# Altium footprint library PcbLib2.PcbLib: 31 footprints (part 1 of 2)
Each footprint in its own frame and in the unit in brackets; x right, y up, seen from the top. Pads: shape width x height; smd on the part's side, far side on the other; paste and mask are expansions set on the pad; w line width, h text height; cw(c..) or ccw(c..) is an arc to the next point about the centre after c.
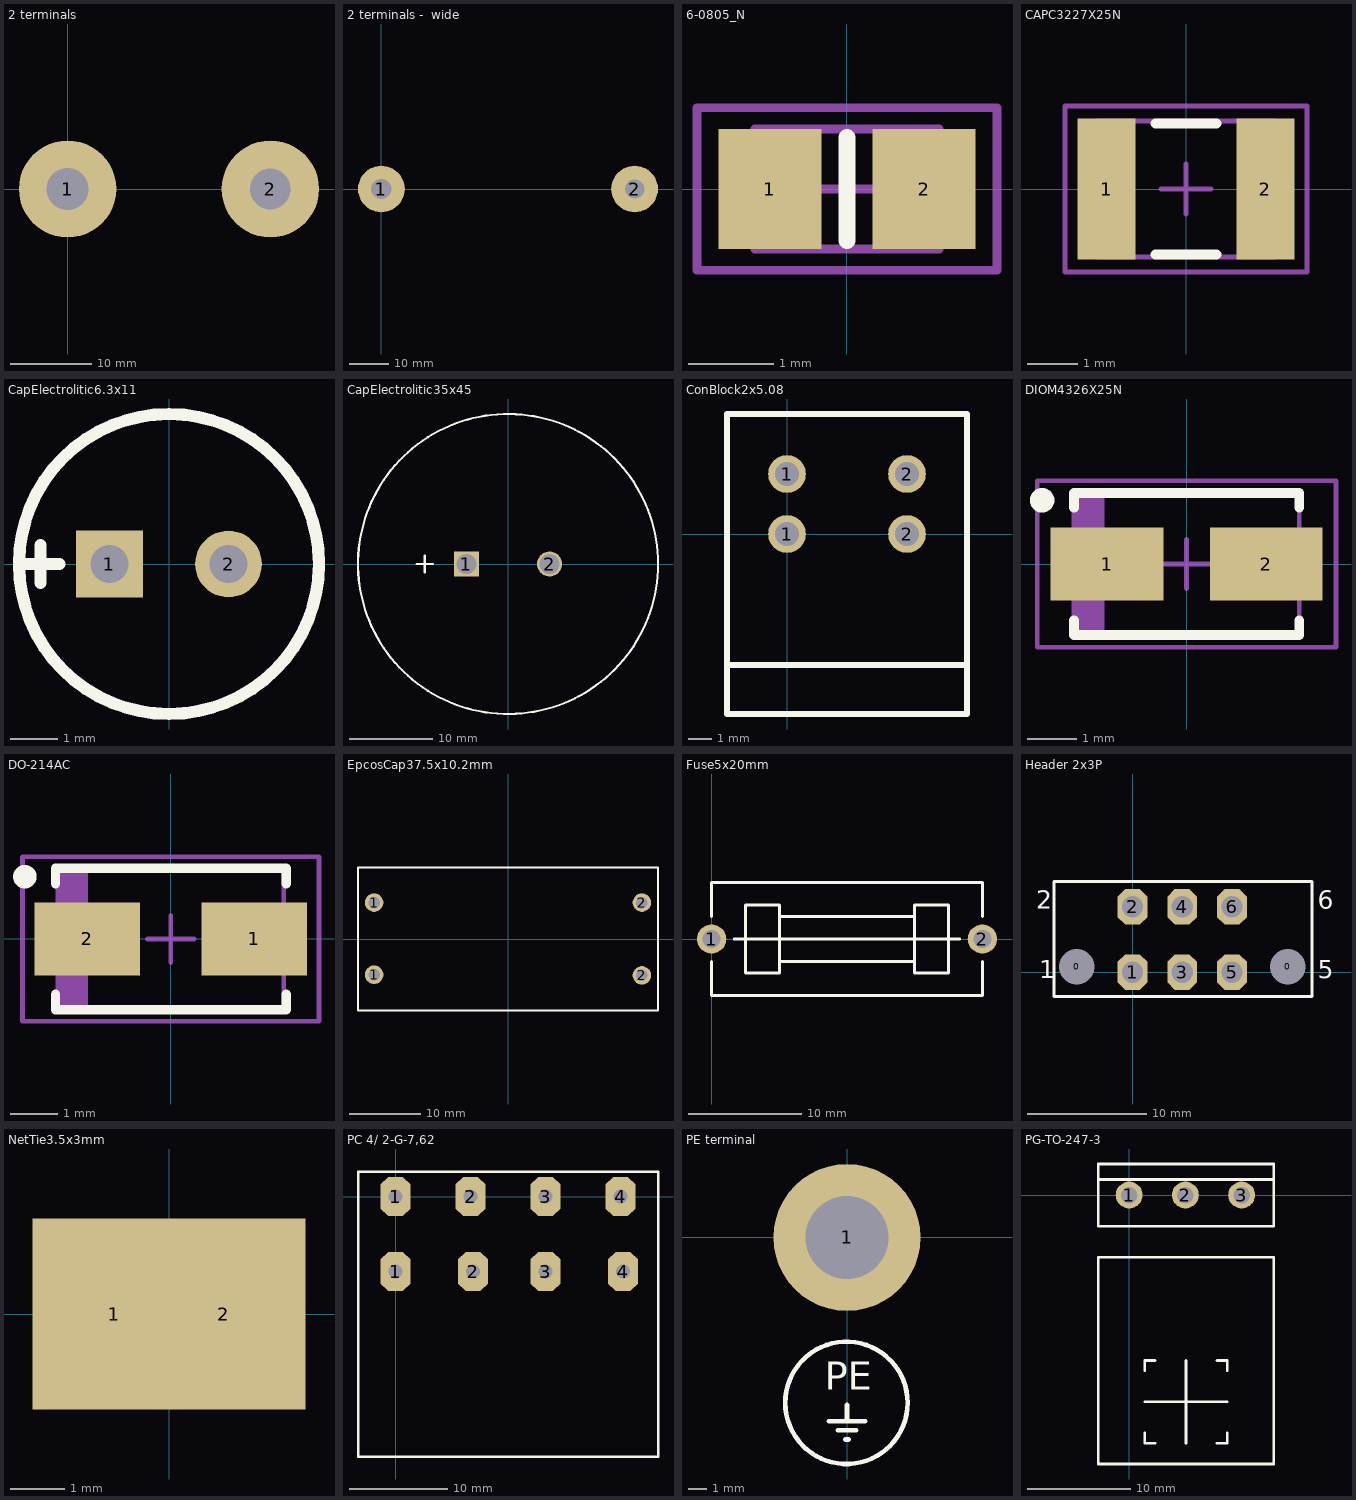
[diagram p0: the footprints below, top view; thin cyan lines are the x and y axes]

## 2 terminals [mm]
pads (2):
  round 12 hole 5.2: 1(0,0)
  round 12 hole 5: 2(25,0)

## 2 terminals -  wide [mm]
pads (2):
  round 12 hole 5.2: 1(0,0)
  round 12 hole 5: 2(65,0)

## 6-0805_N [mm] "Chip Resistor, Body 2.0x1.2mm, IPC Medium Density"
height 0.7
pads (2):
  rect 1.2x1.4 smd: 1(-0.9,0) 2(0.9,0)
Top Overlay:
  lines w0.2: 0,-0.6 0,0.6
Mechanical 13:
  lines w0.1: -1.075,-0.7 1.075,-0.7 1.075,0.7 -1.075,0.7 -1.075,-0.7
Mechanical 15:
  lines w0.1: -0.5,0 0.5,0 ; 0,-0.5 0,0.5 ; -1.75,-0.95 1.75,-0.95 1.75,0.95 -1.75,0.95 -1.75,-0.95
3D body: height 0.7, standoff 0, extent -1.075,-0.7 1.075,0.7

## CAPC3227X25N [mm] "Chip Capacitor, 2-Leads, Body 3.2x2.7mm, IPC Medium Density"
height 2.5
pads (2):
  rect 1.15x2.8 smd: 1(-1.575,0) 2(1.575,0)
Top Overlay:
  lines w0.2: -0.6,-1.3 0.6,-1.3 ; -0.6,1.3 0.6,1.3
Mechanical 13:
  lines w0.1: -1.75,-1.35 -1.75,1.35 1.75,1.35 1.75,-1.35 -1.75,-1.35
Mechanical 15:
  lines w0.1: -0.5,0 0.5,0 ; 0,-0.5 0,0.5 ; -2.4,-1.65 -2.4,1.65 2.4,1.65 2.4,-1.65 -2.4,-1.65
3D body: height 2.5, standoff 0, extent -1.75,-1.35 1.75,1.35

## CapElectrolitic6.3x11 [mm]
height 11
pads (2):
  rect 1.4x1.4 hole 0.8: 1(-1.25,0)
  round 1.4 hole 0.8: 2(1.25,0)
Top Overlay:
  circle w0.254: c0,0 r3.15
  lines w0.254: -3.1,0 -2.3,0 ; -2.7,-0.4 -2.7,0.4

## CapElectrolitic35x45 [mm]
height 40
pads (2):
  rect 3x3 hole 2.4: 1(-5,0)
  round 3 hole 2.4: 2(5,0)
Top Overlay:
  circle w0.254: c0,0 r18.028
  lines w0.254: -11,0 -9,0 ; -10,-1 -10,1

## ConBlock2x5.08 [mm]
pads (4):
  round 1.6 hole 1: 1(0,0) 1(0,2.54) 2(5.08,0) 2(5.08,2.54)
Top Overlay:
  lines w0.254: -2.54,-5.54 7.62,-5.54 ; -2.54,-7.62 7.62,-7.62 7.62,5.08 -2.54,5.08 -2.54,-7.62

## DIOM4326X25N [mm] "Molded Diode, 2-Leads, Body 4.3x2.6mm, IPC Medium Density"
height 2.5
pads (2):
  rect 2.3x1.5 smd: 1(-1.625,0) 2(1.625,0)
Top Overlay:
  circle w0.25: c-2.95,1.3 r0.125
  lines w0.2: -2.3,-1.15 -2.3,-1.45 2.3,-1.45 2.3,-1.15 ; -2.3,1.15 -2.3,1.45 2.3,1.45 2.3,1.15
Mechanical 13:
  rectangle: -2.3,-1.415 -1.681,1.415
  lines w0.1: -2.3,-1.415 2.3,-1.415 2.3,1.415 -2.3,1.415 -2.3,-1.415
Mechanical 15:
  lines w0.1: -0.5,0 0.5,0 ; 0,-0.5 0,0.5 ; -3.05,-1.7 3.05,-1.7 3.05,1.7 -3.05,1.7 -3.05,-1.7
3D body: height 2.5, standoff 0, extent -2.3,-1.415 2.3,1.415

## DO-214AC [mm] "Molded Diode, 2-Leads, Body 4.5x2.7mm, IPC Medium Density"
height 2.5
pads (2):
  rect 2.25x1.55 smd: 1(1.775,0) 2(-1.775,0)
Top Overlay:
  circle w0.25: c-3.1,1.325 r0.125
  lines w0.2: -2.45,-1.175 -2.45,-1.5 2.45,-1.5 2.45,-1.175 ; -2.45,1.175 -2.45,1.5 2.45,1.5 2.45,1.175
Mechanical 13:
  rectangle: -2.4,-1.45 -1.754,1.45
  lines w0.1: -2.4,-1.45 2.4,-1.45 2.4,1.45 -2.4,1.45 -2.4,-1.45
Mechanical 15:
  lines w0.1: -0.5,0 0.5,0 ; 0,-0.5 0,0.5 ; -3.15,-1.75 3.15,-1.75 3.15,1.75 -3.15,1.75 -3.15,-1.75
3D body: height 2.5, standoff 0, extent -2.4,-1.45 2.4,1.45

## EpcosCap37.5x10.2mm [mm]
height 39.5
pads (4):
  round 2.6 hole 1.6: 1(-18.75,-5) 1(-18.75,5.1) 2(18.75,-5.1) 2(18.75,5.1)
Top Overlay:
  lines w0.254: -21,-10 21,-10 21,10 -21,10 -21,-10

## Fuse5x20mm [mm]
height 17
pads (2):
  round 2.6 hole 1.6: 1(0,0) 2(24,0)
Top Overlay:
  lines w0.254: 0,-2 0,-5 24,-5 24,-2 ; 0,2 0,5 24,5 24,2 ; 2,0 22,0 ; 6,-2 18,-2 ; 6,2 18,2 ; 3,-3 3,3 6,3 6,-3 3,-3 ; 18,-3 21,-3 21,3 18,3 18,-3

## Header 2x3P [mm] "Straight header 2x2P"
height 10
pads (8):
  round 1 hole 3: 0(-4.7,0.46) 0(13.082,0.46)
  oct 2.5x3 hole 1.8: 1(0,0) 2(0,5.5) 3(4.182,0) 4(4.182,5.5) 5(8.382,0) 6(8.382,5.5)
Top Overlay:
  lines w0.254: -6.604,-2.032 -6.604,7.62 15.104,7.62 15.104,-2.032 -6.604,-2.032
  text "1" at -7.874,-0.508 h1.52
  text "2" at -8.128,5.334 h1.52
  text "6" at 15.612,5.334 h1.52
  text "5" at 15.612,-0.508 h1.52

## NetTie3.5x3mm [mm]
pads (2):
  rect 3x3.5 smd: 1(-1,0) 2(1,0)

## PC 4/ 2-G-7,62 [mm] "2pin pistik plaadile"
height 14
pads (8):
  oct 3x4 hole 1.4: 1(0,-7.62) 1(0,0) 2(7.62,0) 2(7.874,-7.62) 3(15.24,-7.62) 3(15.24,0) 4(22.86,0) 4(23.114,-7.62)
Top Overlay:
  lines w0.254: -3.81,-26.416 -3.81,2.54 26.67,2.54 26.67,-2.54 26.67,-26.416 -3.81,-26.416

## PE terminal [mm]
pads (1):
  round 8 hole 4.5: 1(0,0)
Top Overlay:
  circle w0.254: c-0.03,-9 r3.33
  lines w0.254: -1,-10 1,-10 ; -0.5,-10.5 0.5,-10.5 ; -0.1,-11 0.1,-11 ; 0,-10 0,-9.1
  text "PE" at -1.2,-8.3 h1.52

## PG-TO-247-3 [mm]
height 5
pads (3):
  round 2.6 hole 1.6: 1(0,0) 2(5.44,0) 3(10.88,0)
Top Overlay:
  lines w0.254: -3,1.5 14,1.5 ; 1.5,-23 1.5,-24 2.5,-24 ; 1.5,-20 9.5,-20 ; 1.5,-17 1.5,-16 2.5,-16 ; 5.5,-24 5.5,-16 ; 8.5,-24 9.5,-24 9.5,-23 ; 8.5,-16 9.5,-16 9.5,-17 ; -3,-26 14,-26 14,-6 -3,-6 -3,-26 ; -3,-3 -3,3 14,3 14,-3 -3,-3